# EAGLE library part LED-ARRAY-3 (library RoboJackets-LEDs)
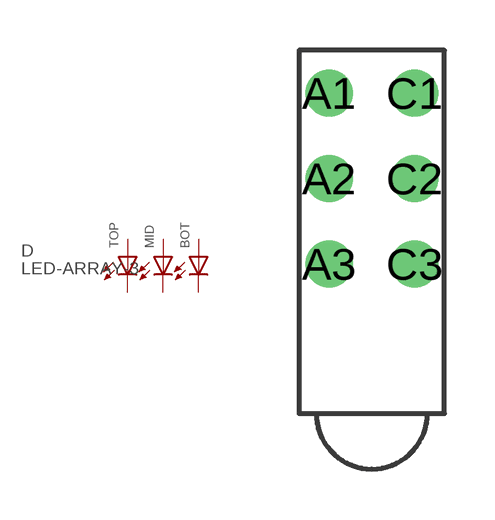
[diagram p2: symbol with the pads of DIALIGHT-564; footprint DIALIGHT-564]

Designator prefix D

## LED-ARRAY-3-564  [DIALIGHT-564]
A1  A1  pas
A2  A2  pas
A3  A3  pas
C1  C1  pas
C2  C2  pas
C3  C3  pas

## Footprint DIALIGHT-564 (pad centres in mm)
drill 0.9: A1 0,5.08; A2 0,2.54; A3 0,0; C1 2.54,5.08; C2 2.54,2.54; C3 2.54,0